# Altium schematic symbol library Texas_Instruments_SN65C3232PW.SchLib: 1 symbol
Pins are listed as number, name and electrical type; pins without a type are passive.

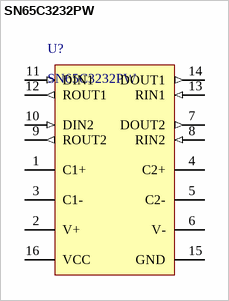
[diagram p0: symbol SN65C3232PW]

## SN65C3232PW
designator U?
3-V to 5.5-V Multichannel RS-232 Compatible Line Driver / Receiver, -40 to 85 degC, 16-Pin TSSOP (PW), Green (RoHS & no Sb/Br); Supply Voltage(s)(V): 3.3 or 5.0; Drivers Per Package: 2; Single Supply: TRUE; ICC(Max)(mA): 1; ESD HBM(kV): +/-15; ComponentLink1Description: Manufacturer URL; ComponentLink2Description: Datasheet; DatasheetVersion: SLLS540B; ComponentLink3URL: http://www.ti.com/litv/pdf/mpds361; ComponentLink3Description: Package Specification; ComponentLink1URL: www.ti.com; ComponentLink2URL: http://www.ti.com/general/docs/lit/getliterature.tsp?genericPartNumber=SN65C3232&fileType=pdf; RS-232: TRUE; Receivers Per Package: 2; SubFamily: RS-232; PackageDescription: 16-Pin Plastic Thin Small Outline Package 5 x 4.4 mm Body ,0.65 mm Pitch; PackageVersion: revG, Feb-2011; PackageReference: PW0016A; PartNumber: SN65C3232PW
footprint PW0016A_L
footprint PW0016A_M
footprint PW0016A_N
pins: 1 C1+, 2 V+ (power), 3 C1-, 4 C2+, 5 C2-, 6 V- (power), 7 DOUT2 (out), 8 RIN2 (in), 9 ROUT2 (out), 10 DIN2 (in), 11 DIN1 (in), 12 ROUT1 (out), 13 RIN1 (in), 14 DOUT1 (out), 15 GND (power), 16 VCC (power)